# Altium footprint library SCA100T.PcbLib: 1 footprints
Each footprint in its own frame and in the unit in brackets; x right, y up, seen from the top. Pads: shape width x height; smd on the part's side, far side on the other; paste and mask are expansions set on the pad; w line width, h text height; cw(c..) or ccw(c..) is an arc to the next point about the centre after c.
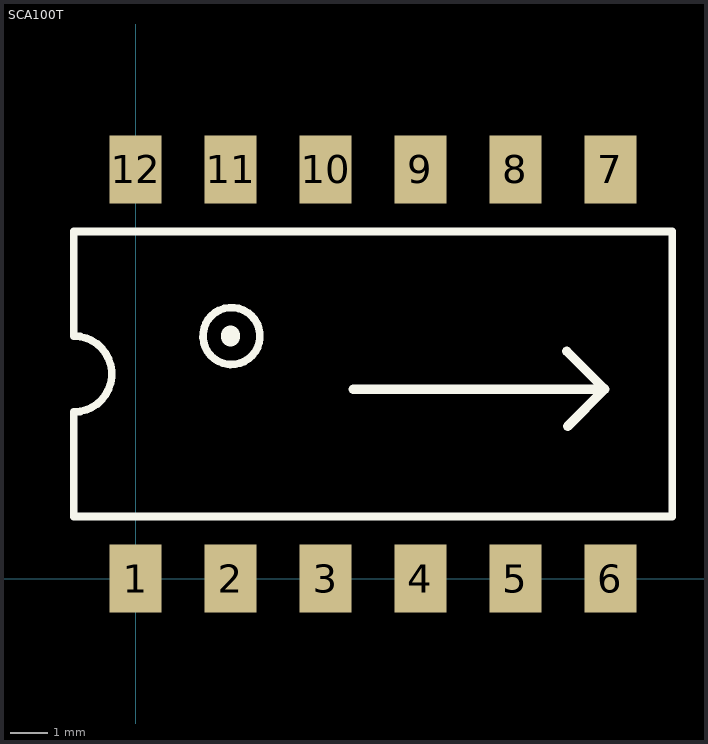
[diagram p0: the footprint, top view; thin cyan lines are the x and y axes]

## SCA100T [mil]
height 200
pads (12):
  rect 55x71.5 smd: 1(0,0) 2(100,0) 3(200,0) 4(300,0) 5(400,0) 6(500,0) 7(500,431) 8(400,431) 9(300,431) 10(200,431) 11(100,431) 12(0,431)
TopOverlay:
  lines w8: 97.03,225.76 cw(c101,255.5) 99.5,225.54 ; -65,65.5 -65,175.5 ccw(c-65,215.5) -65,255.5 -65,365.5 565,365.5 565,65.5 -65,65.5
  lines w10: 231,199.5 229,199.5 494,199.5 ; 454,239.5 493,200.5 ; 454.91,160.41 493.91,199.41
  lines w20: 100,254.5 100,256.5
  text "." at -40,90.5 h75